# Altium footprint library Audio 耳机座.PcbLib: 7 footprints
Each footprint in its own frame and in the unit in brackets; x right, y up, seen from the top. Pads: shape width x height; smd on the part's side, far side on the other; paste and mask are expansions set on the pad; w line width, h text height; cw(c..) or ccw(c..) is an arc to the next point about the centre after c.
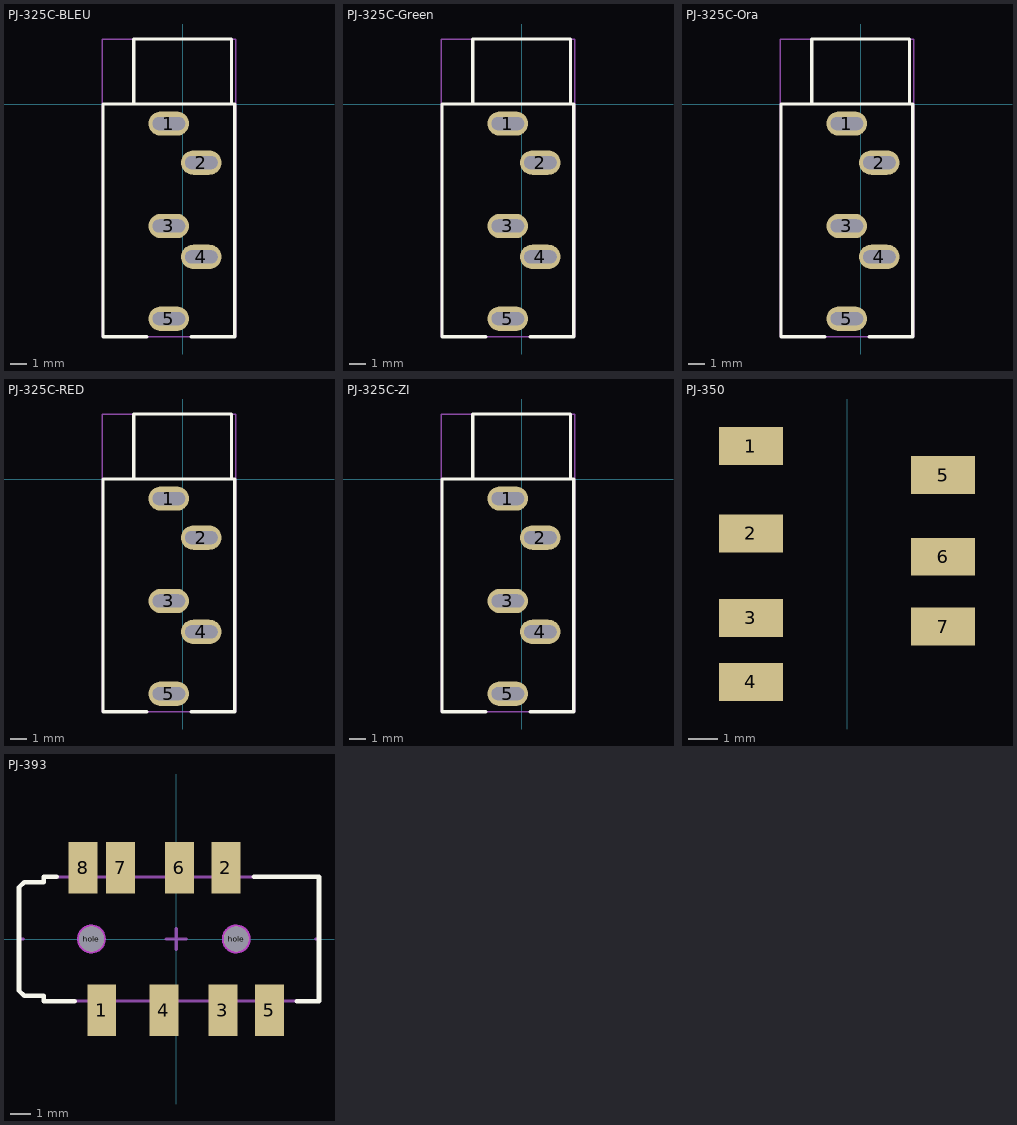
[diagram p0: the footprints below, top view; thin cyan lines are the x and y axes]

## PJ-325C-BLEU [mm] "Connector; Stereo Jack, 3.5mm, 5 Position"
height 12.4
pads (5):
  oval 2.5x1.5 hole 0.8 slot 2 at 0 deg: 1(-0.85,-1.2) 2(1.15,-3.6) 3(-0.85,-7.5) 4(1.15,-9.4) 5(-0.85,-13.2)
Top Overlay:
  lines w0.2: -3,0 -3,4 3,4 3,0 ; -2.21,-14.312 -4.9,-14.312 -4.9,0 3.2,0 3.2,-14.312 0.508,-14.312
Mechanical 13:
  lines w0.1: -4.938,-14.312 3.262,-14.312 3.262,3.988 -4.938,3.988 -4.938,-14.312
3D body: height 12.35, standoff -3.55, extent -4.938,-14.312 3.262,3.988

## PJ-325C-Green [mm] "Connector; Stereo Jack, 3.5mm, 5 Position"
height 12.4
pads (5):
  oval 2.5x1.5 hole 0.8 slot 2 at 0 deg: 1(-0.85,-1.2) 2(1.15,-3.6) 3(-0.85,-7.5) 4(1.15,-9.4) 5(-0.85,-13.2)
Top Overlay:
  lines w0.2: -3,0 -3,4 3,4 3,0 ; -2.21,-14.312 -4.9,-14.312 -4.9,0 3.2,0 3.2,-14.312 0.508,-14.312
Mechanical 13:
  lines w0.1: -4.938,-14.312 -4.938,3.988 3.262,3.988 3.262,-14.312 -4.938,-14.312
3D body: height 12.35, standoff -3.55, extent -4.938,-14.312 3.262,3.988

## PJ-325C-Ora [mm] "Connector; Stereo Jack, 3.5mm, 5 Position"
height 12.4
pads (5):
  oval 2.5x1.5 hole 0.8 slot 2 at 0 deg: 1(-0.85,-1.2) 2(1.15,-3.6) 3(-0.85,-7.5) 4(1.15,-9.4) 5(-0.85,-13.2)
Top Overlay:
  lines w0.2: -3,0 -3,4 3,4 3,0 ; -2.21,-14.312 -4.9,-14.312 -4.9,0 3.2,0 3.2,-14.312 0.508,-14.312
Mechanical 13:
  lines w0.1: -4.938,-14.312 -4.938,3.988 3.262,3.988 3.262,-14.312 -4.938,-14.312
3D body: height 12.35, standoff -3.55, extent -4.938,-14.312 3.262,3.988

## PJ-325C-RED [mm] "Connector; Stereo Jack, 3.5mm, 5 Position"
height 12.4
pads (5):
  oval 2.5x1.5 hole 0.8 slot 2 at 0 deg: 1(-0.85,-1.2) 2(1.15,-3.6) 3(-0.85,-7.5) 4(1.15,-9.4) 5(-0.85,-13.2)
Top Overlay:
  lines w0.2: -3,0 -3,4 3,4 3,0 ; -2.21,-14.312 -4.9,-14.312 -4.9,0 3.2,0 3.2,-14.312 0.508,-14.312
Mechanical 13:
  lines w0.1: -4.938,-14.312 -4.938,3.988 3.262,3.988 3.262,-14.312 -4.938,-14.312
3D body: height 12.35, standoff -3.55, extent -4.938,-14.312 3.262,3.988

## PJ-325C-ZI [mm] "Connector; Stereo Jack, 3.5mm, 5 Position"
height 12.4
pads (5):
  oval 2.5x1.5 hole 0.8 slot 2 at 0 deg: 1(-0.85,-1.2) 2(1.15,-3.6) 3(-0.85,-7.5) 4(1.15,-9.4) 5(-0.85,-13.2)
Top Overlay:
  lines w0.2: -3,0 -3,4 3,4 3,0 ; -2.21,-14.312 -4.9,-14.312 -4.9,0 3.2,0 3.2,-14.312 0.508,-14.312
Mechanical 13:
  lines w0.1: -4.938,-14.312 3.262,-14.312 3.262,3.988 -4.938,3.988 -4.938,-14.312
3D body: height 12.35, standoff -3.55, extent -4.938,-14.312 3.262,3.988

## PJ-350 [mm] "贴片式3.5耳机插座"
pads (7):
  rect 2.2x1.3 smd: 1(-3.3,-2.8) 2(-3.3,-5.8) 3(-3.3,-8.7) 4(-3.3,-10.9) 5(3.3,-3.8) 6(3.3,-6.6) 7(3.3,-9)

## PJ-393 [mm] "http://www.asia-atom.com/index.asp, 耳机座"
height 5
pads (10):
  rect 1.4x2.5 smd: 1(-3.6,-3.45) 2(2.4,3.45) 3(2.25,-3.45) 4(-0.6,-3.45) 5(4.5,-3.45) 6(0.15,3.45) 7(-2.69,3.45) 8(-4.5,3.45)
  round 1.2 hole 1.2: hole(-4.1,0) hole(2.9,0)
Top Overlay:
  lines w0.22: -5.766,3 -6.4,3 -6.4,2.75 -7.346,2.75 -7.6,2.496 -7.6,-2.496 -7.346,-2.75 -6.4,-2.75 -6.4,-3 -4.902,-3 ; 3.759,3 6.9,3 6.9,-3 5.817,-3
Keep-Out Layer:
  circle w0.2: c2.9,0 r0.6
  circle w0.2: c-4.1,0 r0.6
  circle w0.2: c2.9,0 r0.6
Mechanical 1:
  circle w0.2: c-4.1,0 r0.6
  circle w0.2: c2.9,0 r0.6
Mechanical 15:
  lines w0.15: -7.6,0 -7.391,0 ; -0.5,0 0.5,0 ; 0,-0.5 0,0.5 ; 6.731,0 6.9,0 ; -7.6,-2.496 -7.6,2.496 -7.346,2.75 -6.4,2.75 -6.4,3 6.9,3 6.9,-3 -6.4,-3 -6.4,-2.75 -7.346,-2.75 -7.6,-2.496